# Altium footprint library My_PcbLib.PcbLib: 32 footprints (part 2 of 2)
Each footprint in its own frame and in the unit in brackets; x right, y up, seen from the top. Pads: shape width x height; smd on the part's side, far side on the other; paste and mask are expansions set on the pad; w line width, h text height; cw(c..) or ccw(c..) is an arc to the next point about the centre after c.
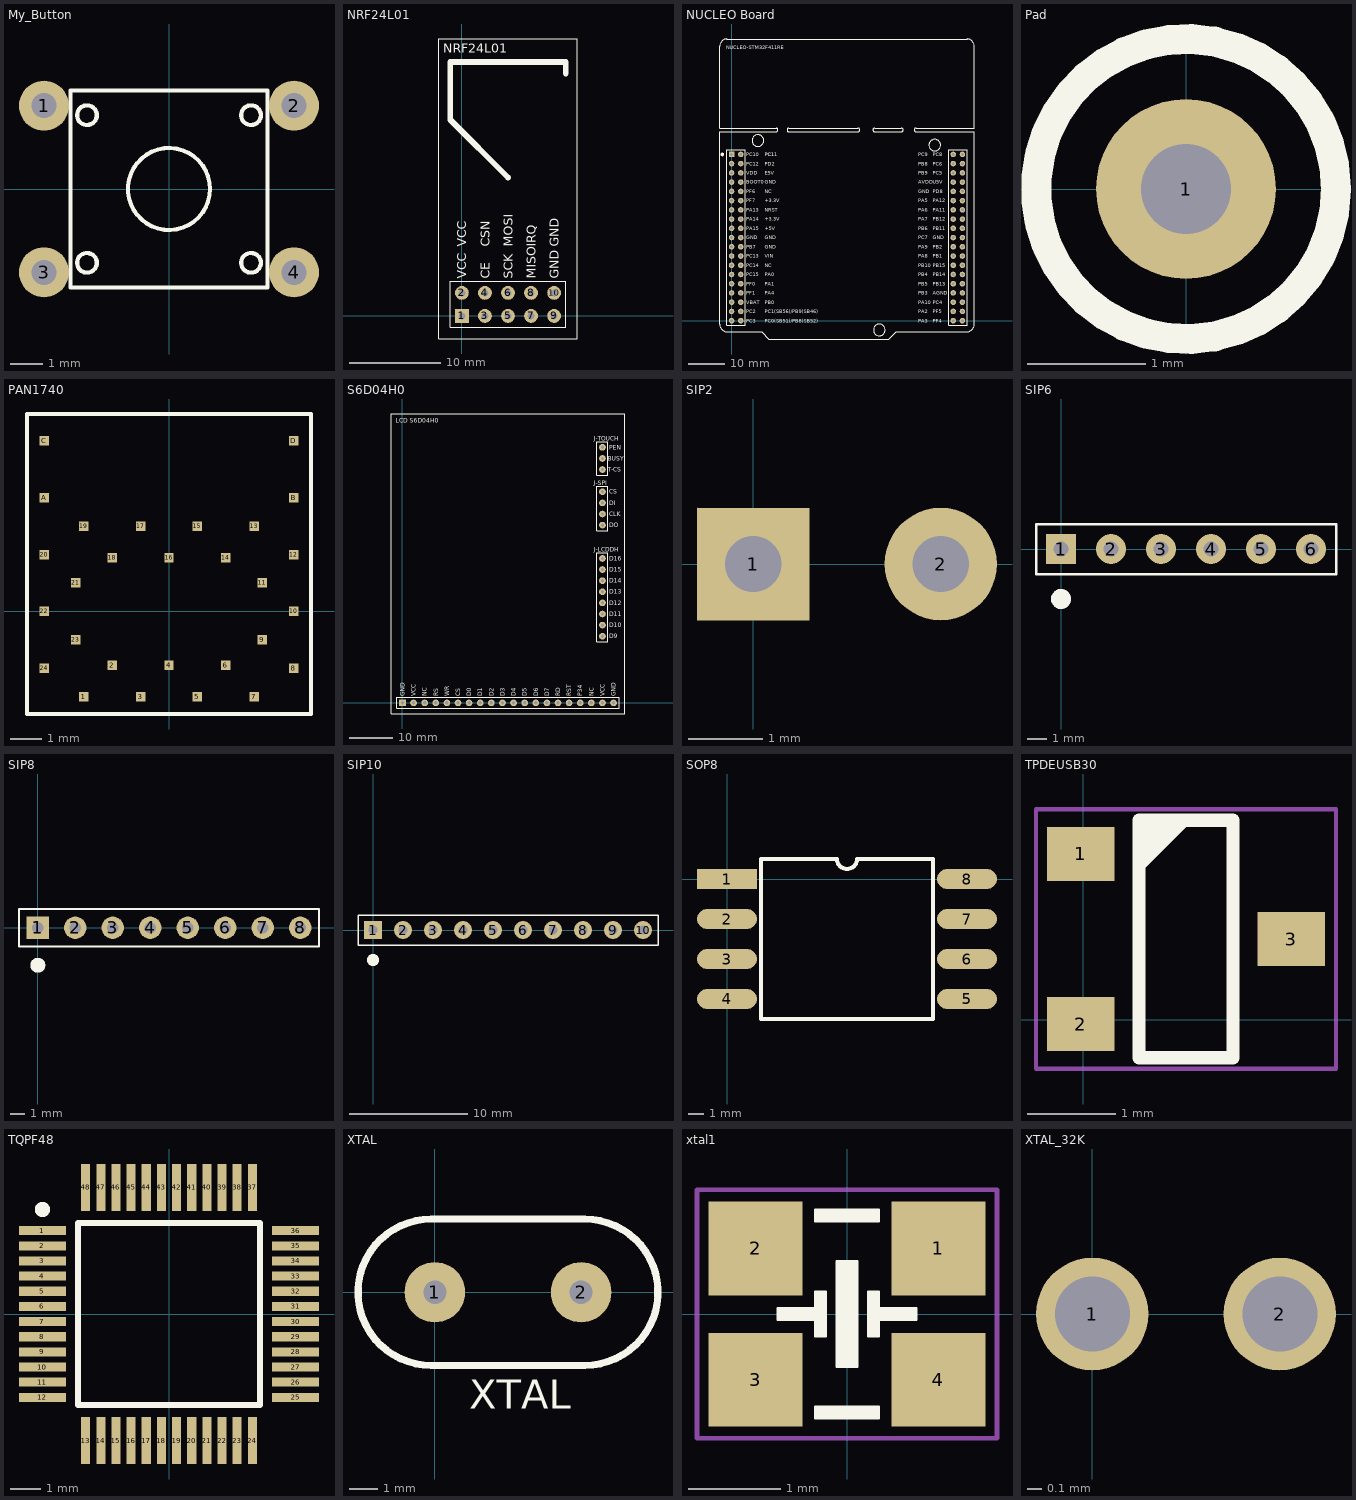
[diagram p1: the footprints below, top view; thin cyan lines are the x and y axes]

## My_Button [mil] "My Botton 4 pins"
pads (4):
  round 60 hole 30: 1(-150,100) 2(150,100) 3(-150,-100) 4(150,-100)
Top Overlay:
  circle w5: c0,0 r49.21
  circle w5: c98.43,88.58 r11.81
  circle w5: c-98.43,88.58 r11.81
  circle w5: c-98.43,-88.58 r11.81
  circle w5: c98.43,-88.58 r11.81
  lines w5: -118.11,-118.11 118.11,-118.11 118.11,118.11 -118.11,118.11 -118.11,-118.11

## NRF24L01 [mil] "NRF24L01 PCB MODULE"
pads (10):
  rect 60x60 hole 30: 1(0,0)
  round 60 hole 30: 2(0,100) 3(100,0) 4(100,100) 5(200,0) 6(200,100) 7(300,0) 8(300,100) 9(400,0) 10(400,100)
Top Overlay:
  lines w5: -100,-100 -100,1200 500,1200 500,-100 -100,-100 ; -50,-50 -50,150 450,150 450,-50 -50,-50
  lines w25: 200,600 -50,850 -50,1100 450,1100 450,1050
  text "VCC" at 20,300 h40
  text "CSN" at 120,300 h40
  text "MOSI" at 220,300 h40
  text "GND" at 420,300 h40
  text "IRQ" at 320,300 h40
  text "MISO" at 320,160 h40
  text "SCK" at 220,160 h40
  text "CE" at 120,160 h40
  text "GND" at 420,160 h40
  text "VCC" at 20,160 h40
  text "NRF24L01" at -80,1140 h40

## NUCLEO Board [mil] "My_Nucleo"
pads (76):
  rect 60x60 hole 30: 1(0,1800)
  round 60 hole 30: 2(100,1800) 3(0,1700) 4(100,1700) 5(0,1600) 6(100,1600) 7(0,1500) 8(100,1500) 9(0,1400) 10(100,1400) 11(0,1300) 12(100,1300) 13(0,1200) 14(100,1200) 15(0,1100) 16(100,1100) 17(0,1000) 18(100,1000) 19(0,900) 20(100,900) 21(0,800) 22(100,800) 23(0,700) 24(100,700) 25(0,600) 26(100,600) 27(0,500) 28(100,500) 29(0,400) 30(100,400) 31(0,300) 32(100,300) 33(0,200) 34(100,200) 35(0,100) 36(100,100) 37(0,0) 38(100,0) 39(2400,1800) 40(2500,1800) 41(2400,1700) 42(2500,1700) 43(2400,1600) 44(2500,1600) 45(2400,1500) 46(2500,1500) 47(2400,1400) 48(2500,1400) 49(2400,1300) 50(2500,1300) 51(2400,1200) 52(2500,1200) 53(2400,1100) 54(2500,1100) 55(2400,1000) 56(2500,1000) 57(2400,900) 58(2500,900) 59(2400,800) 60(2500,800) 61(2400,700) 62(2500,700) 63(2400,600) 64(2500,600) 65(2400,500) 66(2500,500) 67(2400,400) 68(2500,400) 69(2400,300) 70(2500,300) 71(2400,200) 72(2500,200) 73(2400,100) 74(2500,100) 75(2400,0) 76(2500,0)
Top Overlay:
  circle w5: c2200,1900 r62.99
  circle w5: c285.83,1950 r62.99
  circle w5: c1600,-100 r62.99
  circle w20: c-100,1800 r10
  lines w5: -127.95,-40.94 ccw(c-49.21,-40.94) -49.21,-119.69 324.8,-119.69 403.54,-198.43 1702.76,-198.43 1781.5,-119.69 2549.21,-119.69 ccw(c2549.21,-40.94) 2627.95,-40.94 2627.95,2045.67 1998.03,2045.67 cw(c1998.03,2065.35) 1998.03,2085.04 2627.95,2085.04 2627.95,2970.87 ccw(c2549.21,2970.87) 2549.21,3049.61 -49.21,3049.61 ccw(c-49.21,2970.87) -127.95,2970.87 -127.95,2085.04 482.28,2085.04 cw(c482.28,2065.35) 482.28,2045.67 -127.95,2045.67 -127.95,-40.94 ; -50,-50 150,-50 150,1850 -50,1850 -50,-50 ; 620.08,2045.67 cw(c620.08,2065.35) 620.08,2085.04 1368.11,2085.04 cw(c1368.11,2065.35) 1368.11,2045.67 620.08,2045.67 ; 1550,2045.67 cw(c1550,2065.35) 1550,2085.04 1838.58,2085.04 cw(c1838.58,2065.35) 1838.58,2045.67 1550,2045.67 ; 2350,-50 2550,-50 2550,1850 2350,1850 2350,-50
  text "NUCLEO-STM32F411RE" at -60,2940 h40
  text "PC10" at 160,1780 h40
  text "PC12" at 160,1680 h40
  text "VDD" at 160,1580 h40
  text "BOOT0" at 160,1480 h40
  text "PF6" at 160,1380 h40
  text "PF7" at 160,1280 h40
  text "PA13" at 160,1180 h40
  text "PA14" at 160,1080 h40
  text "PA15" at 160,980 h40
  text "GND" at 160,880 h40
  text "PB7" at 160,780 h40
  text "PC13" at 160,680 h40
  text "PC14" at 160,580 h40
  text "PC15" at 160,480 h40
  text "PF0" at 160,380 h40
  text "PF1" at 160,280 h40
  text "VBAT" at 160,180 h40
  text "PC2" at 160,80 h40
  text "PC3" at 160,-20 h40
  text "GND" at 360,1480 h40
  text "E5V" at 360,1580 h40
  text "PD2" at 360,1680 h40
  text "PC1" at 360,1780 h40
  text "PC11" at 360,1780 h40
  text "NC" at 360,1380 h40
  text "+3.3V" at 360,1280 h40
  text "NRST" at 360,1180 h40
  text "+3.3V" at 360,1080 h40
  text "+5V" at 360,980 h40
  text "GND" at 360,880 h40
  text "GND" at 360,780 h40
  text "VIN" at 360,680 h40
  text "NC" at 360,580 h40
  text "PA0" at 360,480 h40
  text "PA1" at 360,380 h40
  text "PA4" at 360,280 h40
  text "PB0" at 360,180 h40
  text "PC1(SB56)/PB9(SB46)" at 360,80 h40
  text "PC0(SB51)/PB8(SB52)" at 360,-20 h40
  text "PC8" at 2180,1780 h40
  text "PC9" at 2020,1780 h40
  text "PB8" at 2020,1680 h40
  text "PC6" at 2180,1680 h40
  text "PB9" at 2020,1580 h40
  text "PC5" at 2180,1580 h40
  text "AVDD" at 2020,1480 h40
  text "U5V" at 2180,1480 h40
  text "GND" at 2020,1380 h40
  text "PD8" at 2180,1380 h40
  text "PA5" at 2020,1280 h40
  text "PA6" at 2020,1180 h40
  text "PA7" at 2020,1080 h40
  text "PA12" at 2180,1280 h40
  text "PA11" at 2180,1180 h40
  text "PB12" at 2180,1080 h40
  text "PB6" at 2020,980 h40
  text "PC7" at 2020,880 h40
  text "PA9" at 2020,780 h40
  text "PA8" at 2020,680 h40
  text "PB11" at 2180,980 h40
  text "GND" at 2180,880 h40
  text "PB2" at 2180,780 h40
  text "PB1" at 2180,680 h40
  text "PB10" at 2020,580 h40
  text "PB4" at 2020,480 h40
  text "PB5" at 2020,380 h40
  text "PB3" at 2020,280 h40
  text "PA10" at 2020,180 h40
  text "PA2" at 2020,80 h40
  text "PA3" at 2020,-20 h40
  text "PB15" at 2180,580 h40
  text "PB14" at 2180,480 h40
  text "PB13" at 2180,380 h40
  text "AGND" at 2180,280 h40
  text "PC4" at 2180,180 h40
  text "PF5" at 2180,80 h40
  text "PF4" at 2180,-20 h40

## Pad [mil] "My Pad"
pads (1):
  round 60 hole 30: 1(0,0)
Top Overlay:
  circle w10: c0,0 r50

## PAN1740 [mm] "DA14580 BLE MODULE"
pads (28):
  rect 0.3x0.3 smd: 1(-2.7,-2.7) 2(-1.8,-1.7) 3(-0.9,-2.7) 4(0,-1.7) 5(0.9,-2.7) 6(1.8,-1.7) 7(2.7,-2.7) 8(3.95,-1.8) 9(2.95,-0.9) 10(3.95,0) 11(2.95,0.9) 12(3.95,1.8) 13(2.7,2.7) 14(1.8,1.7) 15(0.9,2.7) 16(0,1.7) 17(-0.9,2.7) 18(-1.8,1.7) 19(-2.7,2.7) 20(-3.95,1.8) 21(-2.95,0.9) 22(-3.95,0) 23(-2.95,-0.9) 24(-3.95,-1.8) A(-3.95,3.6) B(3.95,3.6) C(-3.95,5.4) D(3.95,5.4)
Top Overlay:
  lines w0.127: -4.5,-3.25 4.5,-3.25 4.5,6.25 -4.5,6.25 -4.5,-3.25

## S6D04H0 [mil] "My S6D04H0 Module"
pads (35):
  rect 60x60 hole 30: 1(0,0)
  round 60 hole 30: 2(100,0) 3(200,0) 4(300,0) 5(400,0) 6(500,0) 7(600,0) 8(700,0) 9(800,0) 10(900,0) 11(1000,0) 12(1100,0) 13(1200,0) 14(1300,0) 15(1400,0) 16(1500,0) 17(1600,0) 18(1700,0) 19(1800,0) 20(1900,0) 21(1800,600) 22(1800,700) 23(1800,800) 24(1800,900) 25(1800,1000) 26(1800,1100) 27(1800,1200) 28(1800,1300) 29(1800,1600) 30(1800,1700) 31(1800,1800) 32(1800,1900) 33(1800,2100) 34(1800,2200) 35(1800,2300)
Top Overlay:
  lines w5: -100,-100 -100,0 -100,2600 0,2600 2000,2600 2000,-100 -100,-100 ; -50,-50 -50,50 1950,50 1950,-50 -50,-50 ; 1750,550 1750,1350 1850,1350 1850,550 1750,550 ; 1750,1550 1750,1950 1850,1950 1850,1550 1750,1550 ; 1750,2050 1750,2350 1850,2350 1850,2050 1750,2050
  text "GND" at 20,60 h40
  text "VCC" at 120,60 h40
  text "RS" at 320,60 h40
  text "WR" at 420,60 h40
  text "CS" at 520,60 h40
  text "D0" at 620,60 h40
  text "D1" at 720,60 h40
  text "D2" at 820,60 h40
  text "D3" at 920,60 h40
  text "D4" at 1020,60 h40
  text "D5" at 1120,60 h40
  text "D6" at 1220,60 h40
  text "D7" at 1320,60 h40
  text "RD" at 1420,60 h40
  text "RST" at 1520,60 h40
  text "P34" at 1620,60 h40
  text "D9" at 1860,580 h40
  text "NC" at 220,60 h40
  text "NC" at 1720,60 h40
  text "VCC" at 1820,60 h40
  text "GND" at 1920,60 h40
  text "D10" at 1860,680 h40
  text "D11" at 1860,780 h40
  text "D12" at 1860,880 h40
  text "D13" at 1860,980 h40
  text "D14" at 1860,1080 h40
  text "D15" at 1860,1180 h40
  text "D16" at 1860,1280 h40
  text "DO" at 1860,1580 h40
  text "CLK" at 1860,1680 h40
  text "DI" at 1860,1780 h40
  text "CS" at 1860,1880 h40
  text "T-CS" at 1850,2080 h40
  text "BUSY" at 1850,2180 h40
  text "PEN" at 1860,2280 h40
  text "J-TOUCH" at 1720,2360 h40
  text "J-LCDDH" at 1720,1360 h40
  text "J-SPI" at 1720,1960 h40
  text "LCD S6D04H0" at -60,2520 h40

## SIP2 [mil] "SIP2"
pads (2):
  rect 60x60 hole 30: 1(0,0)
  round 60 hole 30: 2(100,0)

## SIP6 [mil] "SIP6"
pads (6):
  rect 60x60 hole 30: 1(0,0)
  round 60 hole 30: 2(100,0) 3(200,0) 4(300,0) 5(400,0) 6(500,0)
Top Overlay:
  circle w20: c0,-100 r10
  lines w5: -50,-50 -50,50 550,50 550,-50 -50,-50

## SIP8 [mil] "SIP8"
pads (8):
  rect 60x60 hole 30: 1(0,0)
  round 60 hole 30: 2(100,0) 3(200,0) 4(300,0) 5(400,0) 6(500,0) 7(600,0) 8(700,0)
Top Overlay:
  circle w20: c0,-100 r10
  lines w5: -50,-50 750,-50 750,50 -50,50 -50,-50

## SIP10 [mil] "SIP10"
pads (10):
  rect 60x60 hole 30: 1(0,0)
  round 60 hole 30: 2(100,0) 3(200,0) 4(300,0) 5(400,0) 6(500,0) 7(600,0) 8(700,0) 9(800,0) 10(900,0)
Top Overlay:
  circle w20: c0,-100 r10
  lines w5: -50,-50 -50,50 950,50 950,-50 -50,-50

## SOP8 [mil]
pads (8):
  rect 150x50 smd: 1(0,0)
  oval 150x50 smd: 2(0,-100) 3(0,-200) 4(0,-300) 5(600,-300) 6(600,-200) 7(600,-100) 8(600,0)
Top Overlay:
  lines w10: 85,-350 515,-350 515,50 325,50 cw(c300,50) 275,50 85,50 85,-350

## TPDEUSB30 [mil] "TPDEUSB30"
pads (3):
  rect 30x24 smd: 1(-1,74) 2(-1,-2) 3(93,36)
Top Overlay:
  region: 25,89 49,89 25,65
  lines w6: 25,-17 25,89 67,89 67,-17 25,-17
Mechanical 14:
  lines w2: -21,-22 -21,94 113,94 113,-22 -21,-22
3D body: height 51.18, standoff 0, extent -9.11,-21.09 101.12,93.09

## TQPF48 [mm] "F-QFP7x7-G48/N"
pads (48):
  rect 1.55x0.3 smd: 1(-4.177,2.756) 2(-4.177,2.256) 3(-4.177,1.756) 4(-4.177,1.256) 5(-4.177,0.756) 6(-4.177,0.256) 7(-4.177,-0.244) 8(-4.177,-0.744) 9(-4.177,-1.244) 10(-4.177,-1.744) 11(-4.177,-2.244) 12(-4.177,-2.744) 25(4.173,-2.744) 26(4.173,-2.244) 27(4.173,-1.744) 28(4.173,-1.244) 29(4.173,-0.744) 30(4.173,-0.244) 31(4.173,0.256) 32(4.173,0.756) 33(4.173,1.256) 34(4.173,1.756) 35(4.173,2.256) 36(4.173,2.756)
  rect 0.3x1.55 smd: 13(-2.752,-4.169) 14(-2.252,-4.169) 15(-1.752,-4.169) 16(-1.252,-4.169) 17(-0.752,-4.169) 18(-0.252,-4.169) 19(0.248,-4.169) 20(0.748,-4.169) 21(1.248,-4.169) 22(1.748,-4.169) 23(2.248,-4.169) 24(2.748,-4.169) 37(2.748,4.181) 38(2.248,4.181) 39(1.748,4.181) 40(1.248,4.181) 41(0.748,4.181) 42(0.248,4.181) 43(-0.252,4.181) 44(-0.752,4.181) 45(-1.252,4.181) 46(-1.752,4.181) 47(-2.252,4.181) 48(-2.752,4.181)
Top Overlay:
  circle w0.25: c-4.177,3.456 r0.125
  lines w0.2: -3.002,-2.994 2.998,-2.994 2.998,3.006 -3.002,3.006 -3.002,-2.994

## XTAL [mm] "XTAL"
pads (2):
  round 2.1 hole 0.8: 1(0,0) 2(5.08,0)
Top Overlay:
  lines w0.254: -0.127,-2.54 cw(c-0.127,0) -0.127,2.54 5.207,2.54 cw(c5.207,0) 5.207,-2.54 -0.127,-2.54
  text "XTAL" at 1.2,-4.05 h1.02

## xtal1 [mil] "XTAL1"
pads (4):
  rect 40x40 smd: 1(39,28) 2(-39,28) 3(-39,-28) 4(39,-28)
Top Overlay:
  region: -13.5,44.5 13.5,44.5 13.5,39.5 -13.5,39.5
  region: -13.5,-39.5 13.5,-39.5 13.5,-44.5 -13.5,-44.5
  region: -29.5,2.5 -13.5,2.5 -13.5,9.5 -9,9.5 -9,-9.5 -13.5,-9.5 -13.5,-2.5 -29.5,-2.5
  region: -4.5,22.5 4.5,22.5 4.5,-22.5 -4.5,-22.5
  region: 9,9.5 13.5,9.5 13.5,2.5 29.5,2.5 29.5,-2.5 13.5,-2.5 13.5,-9.5 9,-9.5
  lines w1: -29.5,-2.5 -13.5,-2.5 -13.5,-9.5 -9,-9.5 -9,9.5 -13.5,9.5 -13.5,2.5 -29.5,2.5 -29.5,-2.5 ; -13.5,-44.5 13.5,-44.5 13.5,-39.5 -13.5,-39.5 -13.5,-44.5 ; -13.5,39.5 -13.5,44.5 13.5,44.5 13.5,39.5 -13.5,39.5 ; -4.5,-22.5 4.5,-22.5 4.5,22.5 -4.5,22.5 -4.5,-22.5 ; 9,-9.5 9,9.5 13.5,9.5 13.5,2.5 29.5,2.5 29.5,-2.5 13.5,-2.5 13.5,-9.5 9,-9.5
Mechanical 14:
  lines w2: -64,-53 64,-53 64,53 -64,53 -64,-53
3D body: height 31.1, standoff 0, extent -49.21,-39.36 49.22,39.37

## XTAL_32K [mil] "XTAL_32K"
pads (2):
  round 30 hole 20: 1(0,0) 2(50,0)